# EAGLE library part AQW21 (library DMFlib)
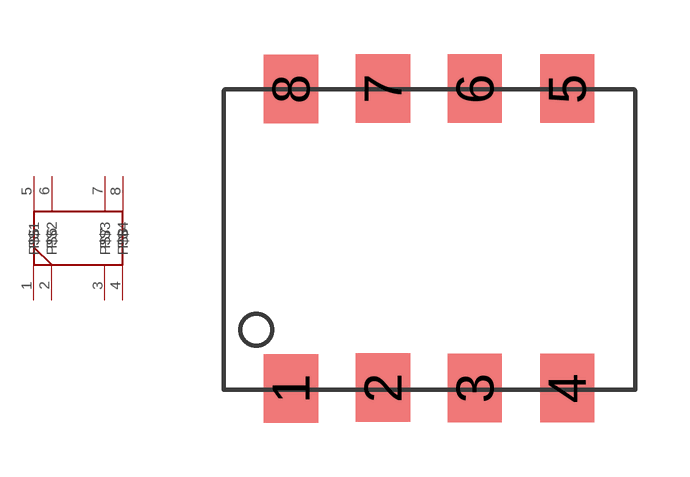
[diagram p0: symbol with the pads of AQW216EH; footprint AQW216EH]

Designator prefix -

## AQW21  [AQW216EH]
1  P$1
2  P$2
3  P$3
4  P$4
5  P$5
6  P$6
7  P$7
8  P$8

## Footprint AQW216EH (pad centres in mm)
smd 1.5 x 1.9: 1 2.54,0; 2 5.09,0.02; 3 7.64,0.01; 4 10.2,0.01; 5 10.2,8.31; 6 7.64,8.31; 7 5.09,8.32; 8 2.54,8.3